# EAGLE library part MCP42XXX (library microchip2)
Dual digital potentiometer with SPI interface
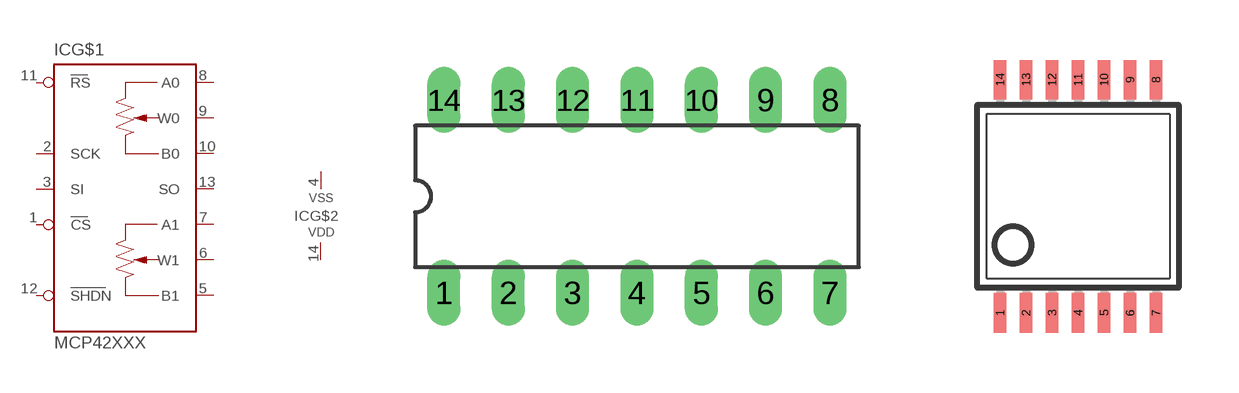
[diagram p156: symbol with the pads of DIL14; footprints DIL14, TSSOP14]

Designator prefix IC; gates G$1=MCP42XX G$2=VDD-VSS

## MCP42XXX  [DIL14]
1  G$1:CS  in
2  G$1:SCK  in
3  G$1:SI  in
4  G$2:VSS  pwr
5  G$1:B1  pas
6  G$1:W1  pas
7  G$1:A1  pas
8  G$1:A0  pas
9  G$1:W0  pas
10  G$1:B0  pas
11  G$1:RS  in
12  G$1:SHDN  in
13  G$1:SO  out
14  G$2:VDD  pwr

## MCP42XXXTSSOP14  [TSSOP14]
Pads as for DIL14

## MCP42XXXSOIC14  [SOIC-14]
Pads as for DIL14

## Footprint DIL14 (pad centres in mm)
Dual In Line Package
drill 0.8 long: 1 -7.62,-3.81; 2 -5.08,-3.81; 3 -2.54,-3.81; 4 0,-3.81; 5 2.54,-3.81; 6 5.08,-3.81; 7 7.62,-3.81; 8 7.62,3.81; 9 5.08,3.81; 10 2.54,3.81; 11 0,3.81; 12 -2.54,3.81; 13 -5.08,3.81; 14 -7.62,3.81

## Footprint TSSOP14 (pad centres in mm)
Thin Shrink Small Outline Plastic 14
smd 0.305 x 0.991: 1 -1.95,-2.918; 2 -1.3,-2.918; 3 -0.65,-2.918; 4 0,-2.918; 5 0.65,-2.918; 6 1.3,-2.918; 7 1.95,-2.918; 8 1.95,2.918; 9 1.3,2.918; 10 0.65,2.918; 11 0,2.918; 12 -0.65,2.918; 13 -1.3,2.918; 14 -1.95,2.918

## Footprint SOIC-14 (pad centres in mm)
14-Lead Plastic Small Outline (SL) – Narrow, 150 mil (SOIC)
smd 0.6 x 2.2: 1 -3.81,-2.6; 2 -2.54,-2.6; 3 -1.27,-2.6; 4 0,-2.6; 5 1.27,-2.6; 6 2.54,-2.6; 7 3.81,-2.6; 8 3.81,2.6; 9 2.54,2.6; 10 1.27,2.6; 11 0,2.6; 12 -1.27,2.6; 13 -2.54,2.6; 14 -3.81,2.6